# EAGLE library part ATSAML21J18B (library ATSAML21J18B)
Cortex-MO+, 256KBFLASH, 32 KBSRAM, USB, ULP - 64TQFP 85C, GREEN, 1.6-3.6V, 48MHz/ TQFP (A)
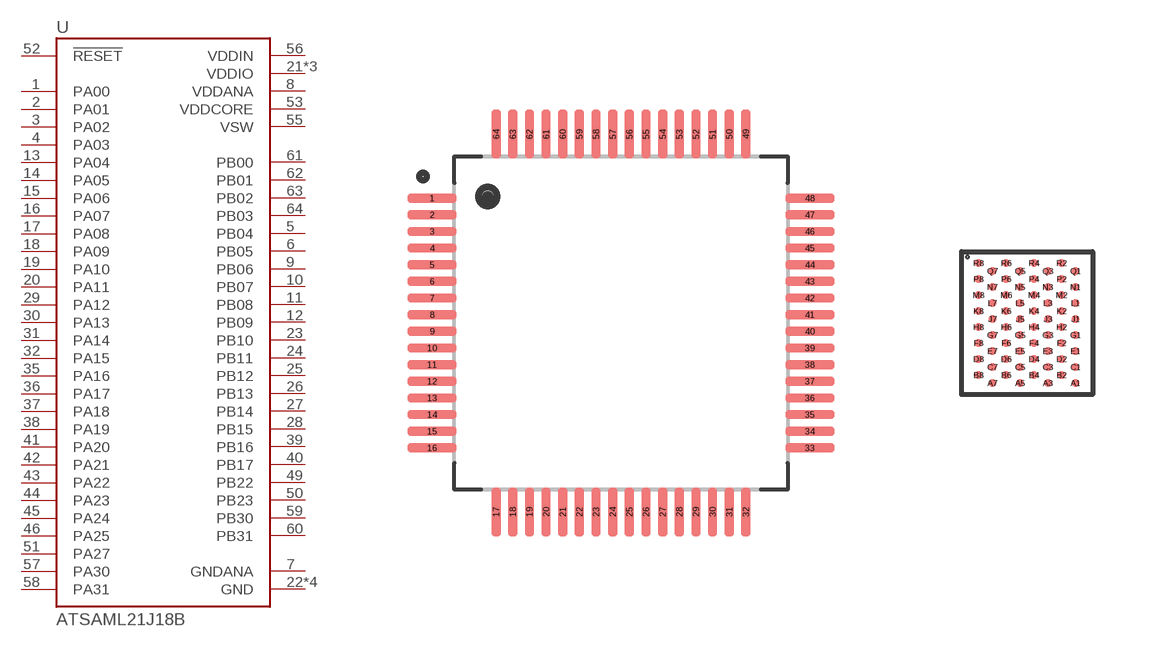
[diagram p0: symbol with the pads of AUT; footprints AUT, UUT]

Designator prefix U

## ATSAML21J18BATSAML21J18B-AUT (DESCRIPTION: Cortex-MO+, 256KBFLASH, 32 KBSRAM, USB, ULP - 64TQFP 85C, GREEN, 1.6-3.6V, 48MHz/ TQFP _A_; DIGI-KEY_PART_NUMBER: ATSAML21J18B-AUTCT-ND; DIGI-KEY_PURCHASE_URL: https://www.digikey.in/product-detail/en/microchip-technology/ATSAML21J18B-AUT/ATSAML21J18B-AUTCT-ND/5702316?utm_source=snapeda&utm_medium=aggregator&utm_campaign=symbol; MF: Microchip; MP: ATSAML21J18B-AUT; PACKAGE: TQFP-64 Microchip)  [AUT]
1  PA00
2  PA01
3  PA02
4  PA03
5  PB04
6  PB05
7  GNDANA  pwr
8  VDDANA  pwr
9  PB06
10  PB07
11  PB08
12  PB09
13  PA04
14  PA05
15  PA06
16  PA07
17  PA08
18  PA09
19  PA10
20  PA11
21  VDDIO  pwr
22  GND  pwr
23  PB10
24  PB11
25  PB12
26  PB13
27  PB14
28  PB15
29  PA12
30  PA13
31  PA14
32  PA15
33  GND  pwr
34  VDDIO  pwr
35  PA16
36  PA17
37  PA18
38  PA19
39  PB16
40  PB17
41  PA20
42  PA21
43  PA22
44  PA23
45  PA24
46  PA25
47  GND  pwr
48  VDDIO  pwr
49  PB22
50  PB23
51  PA27
52  !RESET  in
53  VDDCORE  pwr
54  GND  pwr
55  VSW  pwr
56  VDDIN  pwr
57  PA30
58  PA31
59  PB30
60  PB31
61  PB00
62  PB01
63  PB02
64  PB03

## ATSAML21J18BATSAML21J18B-UUT  [UUT]
A1  PB03
A3  PA03
A5  VDDANA  pwr
A7  PB08
B2  PA01
B4  GNDANA  pwr
B6  PB07
B8  PA05
C1  PB01
C3  PA02
C5  PB06
C7  PA04
D2  PA00
D4  PA06
D6  PB09
D8  PA08
E1  PB31
E3  PB04
E5  PA07
E7  PA09
F2  PB30
F4  PB05
F6  PA10
F8  PA11
G1  PA30
G3  PB00
G5  PB11
G7  GND  pwr
H2  VDDIN  pwr
H4  PB02
H6  VDDIO  pwr
H8  PB10
J1  GND  pwr
J3  PA31
J5  PB12
J7  PB14
K2  VSW  pwr
K4  PB17
K6  PB15
K8  PB13
L1  VDDCORE  pwr
L3  PB23
L5  VDDIO  pwr
L7  PA13
M2  PA27
M4  PA21
M6  GND  pwr
M8  PA12
N1  !RESET  in
N3  PA24
N5  PA19
N7  PA14
P2  GND  pwr
P4  PA23
P6  PA18
P8  PA15
Q1  PB22
Q3  PA25
Q5  PA20
Q7  PA17
R2  VDDIO  pwr
R4  PA22
R6  PB16
R8  PA16

## Footprint AUT (pad centres in mm)
smd 1.47 x 0.28: 1 -5.67,3.75; 2 -5.67,3.25; 3 -5.67,2.75; 4 -5.67,2.25; 5 -5.67,1.75; 6 -5.67,1.25; 7 -5.67,0.75; 8 -5.67,0.25; 9 -5.67,-0.25; 10 -5.67,-0.75; 11 -5.67,-1.25; 12 -5.67,-1.75; 13 -5.67,-2.25; 14 -5.67,-2.75; 15 -5.67,-3.25; 16 -5.67,-3.75; 33 5.67,-3.75; 34 5.67,-3.25; 35 5.67,-2.75; 36 5.67,-2.25; 37 5.67,-1.75; 38 5.67,-1.25; 39 5.67,-0.75; 40 5.67,-0.25; 41 5.67,0.25; 42 5.67,0.75; 43 5.67,1.25; 44 5.67,1.75; 45 5.67,2.25; 46 5.67,2.75; 47 5.67,3.25; 48 5.67,3.75
smd 0.28 x 1.47: 17 -3.75,-5.67; 18 -3.25,-5.67; 19 -2.75,-5.67; 20 -2.25,-5.67; 21 -1.75,-5.67; 22 -1.25,-5.67; 23 -0.75,-5.67; 24 -0.25,-5.67; 25 0.25,-5.67; 26 0.75,-5.67; 27 1.25,-5.67; 28 1.75,-5.67; 29 2.25,-5.67; 30 2.75,-5.67; 31 3.25,-5.67; 32 3.75,-5.67; 49 3.75,5.67; 50 3.25,5.67; 51 2.75,5.67; 52 2.25,5.67; 53 1.75,5.67; 54 1.25,5.67; 55 0.75,5.67; 56 0.25,5.67; 57 -0.25,5.67; 58 -0.75,5.67; 59 -1.25,5.67; 60 -1.75,5.67; 61 -2.25,5.67; 62 -2.75,5.67; 63 -3.25,5.67; 64 -3.75,5.67

## Footprint UUT (pad centres in mm)
smd 0.2 x 0.2: A1 1.212,-1.5; A3 0.519,-1.5; A5 -0.173,-1.5; A7 -0.866,-1.5; B2 0.866,-1.3; B4 0.173,-1.3; B6 -0.519,-1.3; B8 -1.212,-1.3; C1 1.212,-1.1; C3 0.519,-1.1; C5 -0.173,-1.1; C7 -0.866,-1.1; D2 0.866,-0.9; D4 0.173,-0.9; D6 -0.519,-0.9; D8 -1.212,-0.9; E1 1.212,-0.7; E3 0.519,-0.7; E5 -0.173,-0.7; E7 -0.866,-0.7; F2 0.866,-0.5; F4 0.173,-0.5; F6 -0.519,-0.5; F8 -1.212,-0.5; G1 1.212,-0.3; G3 0.519,-0.3; G5 -0.173,-0.3; G7 -0.866,-0.3; H2 0.866,-0.1; H4 0.173,-0.1; H6 -0.519,-0.1; H8 -1.212,-0.1; J1 1.212,0.1; J3 0.519,0.1; J5 -0.173,0.1; J7 -0.866,0.1; K2 0.866,0.3; K4 0.173,0.3; K6 -0.519,0.3; K8 -1.212,0.3; L1 1.212,0.5; L3 0.519,0.5; L5 -0.173,0.5; L7 -0.866,0.5; M2 0.866,0.7; M4 0.173,0.7; M6 -0.519,0.7; M8 -1.212,0.7; N1 1.212,0.9; N3 0.519,0.9; N5 -0.173,0.9; N7 -0.866,0.9; P2 0.866,1.1; P4 0.173,1.1; P6 -0.519,1.1; P8 -1.212,1.1; Q1 1.212,1.3; Q3 0.519,1.3; Q5 -0.173,1.3; Q7 -0.866,1.3; R2 0.866,1.5; R4 0.173,1.5; R6 -0.519,1.5; R8 -1.212,1.5